# EAGLE library part X25-2S (library connectors)
Connector 25 pins, with 2 shield pins
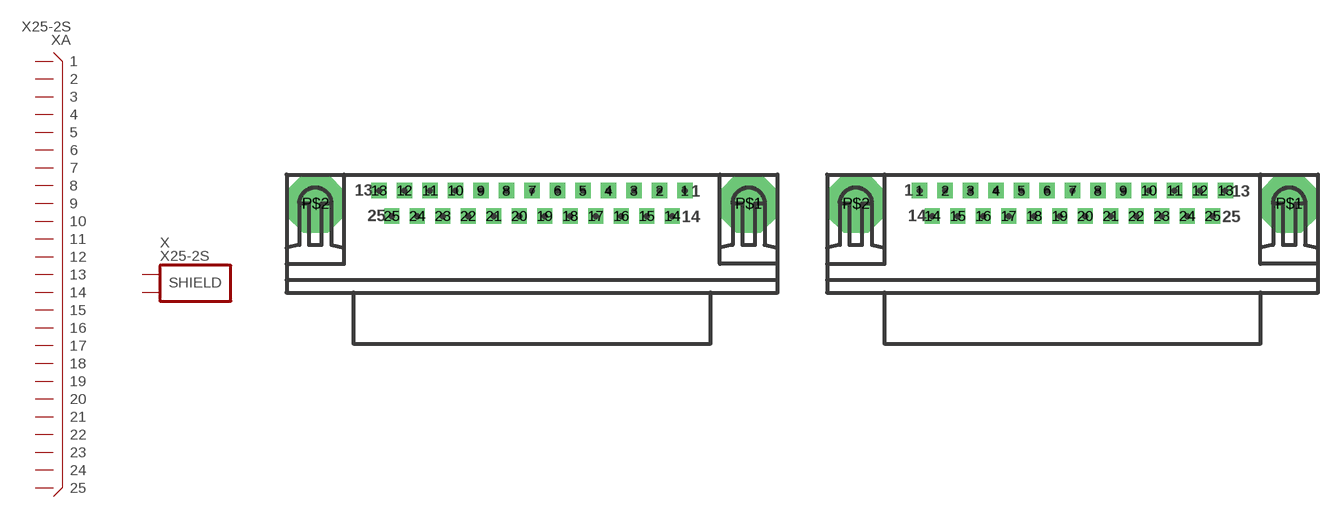
[diagram p70: symbol with the pads of X25-DSUBFEMALE1; footprints X25-DSUBFEMALE1, X25-DSUBMALE1]

Designator prefix X; gates A=X25 S=SHIELD2

## X25-2S-DFEM  [X25-DSUBFEMALE1]
1  A:1
2  A:2
3  A:3
4  A:4
5  A:5
6  A:6
7  A:7
8  A:8
9  A:9
10  A:10
11  A:11
12  A:12
13  A:13
14  A:14
15  A:15
16  A:16
17  A:17
18  A:18
19  A:19
20  A:20
21  A:21
22  A:22
23  A:23
24  A:24
25  A:25
P$1  S:S1
P$2  S:S2

## X25-2S-DMAL  [X25-DSUBMALE1]
Pads as for X25-DSUBFEMALE1

## Footprint X25-DSUBFEMALE1 (pad centres in mm)
D-SUB connector 25 pins, female American size, with shield soldering pads
drill 0.889 pad 1.651 square: 1 16.5,1.375; 2 13.75,1.375; 3 11,1.375; 4 8.25,1.375; 5 5.5,1.375; 6 2.75,1.375; 7 0,1.375; 8 -2.75,1.375; 9 -5.5,1.375; 10 -8.25,1.375; 11 -11,1.375; 12 -13.75,1.375; 13 -16.5,1.375; 14 15.125,-1.375; 15 12.375,-1.375; 16 9.625,-1.375; 17 6.875,-1.375; 18 4.125,-1.375; 19 1.375,-1.375; 20 -1.375,-1.375; 21 -4.125,-1.375; 22 -6.875,-1.375; 23 -9.625,-1.375; 24 -12.375,-1.375; 25 -15.125,-1.375
drill 3.175 pad 6.35 octagon: P$1 23.375,0; P$2 -23.375,0

## Footprint X25-DSUBMALE1 (pad centres in mm)
D-SUB connector 25 pins, male American size, with shield soldering pads
drill 0.889 pad 1.651 square: 1 -16.5,1.375; 2 -13.75,1.375; 3 -11,1.375; 4 -8.25,1.375; 5 -5.5,1.375; 6 -2.75,1.375; 7 0,1.375; 8 2.75,1.375; 9 5.5,1.375; 10 8.25,1.375; 11 11,1.375; 12 13.75,1.375; 13 16.5,1.375; 14 -15.125,-1.375; 15 -12.375,-1.375; 16 -9.625,-1.375; 17 -6.875,-1.375; 18 -4.125,-1.375; 19 -1.375,-1.375; 20 1.375,-1.375; 21 4.125,-1.375; 22 6.875,-1.375; 23 9.625,-1.375; 24 12.375,-1.375; 25 15.125,-1.375
drill 3.175 pad 6.35 octagon: P$1 23.375,0; P$2 -23.375,0